# Altium schematic symbol library POT_3PIN.SchLib: 1 symbol
Pins are listed as number, name and electrical type; pins without a type are passive.

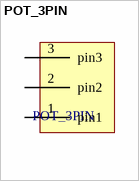
[diagram p0: symbol POT_3PIN]

## POT_3PIN
designator POT_3PIN
footprint pot_3pin
pins: 1 pin1, 2 pin2, 3 pin3